# EAGLE library part PCI_CON (library quickdev_v2)
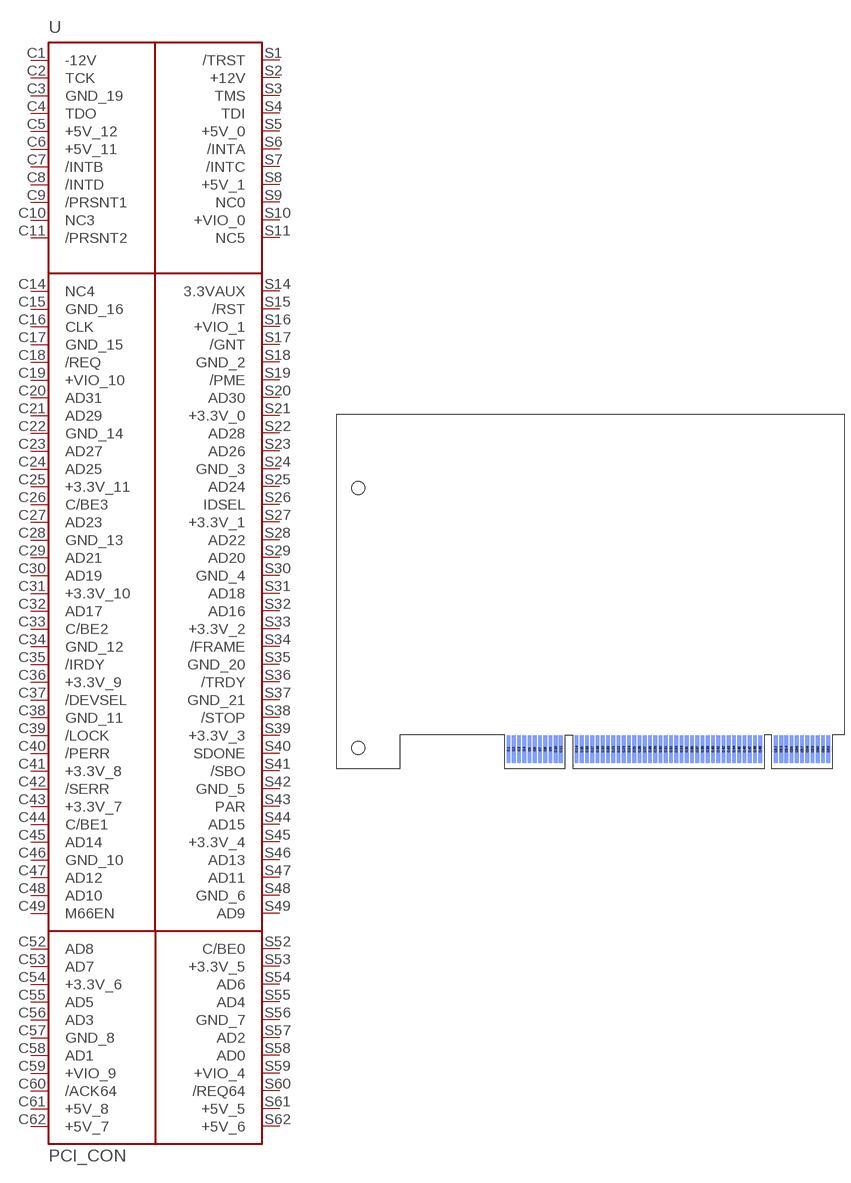
[diagram p4: symbol with the pads of PCI_BRDL; footprint PCI_BRDL]

Designator prefix -

## PCI_CON  [PCI_BRDL]
C1  -12V  pwr
C2  TCK  pas
C3  GND_19  pwr
C4  TDO  pas
C5  +5V_12  pwr
C6  +5V_11  pwr
C7  /INTB  pas
C8  /INTD  pas
C9  /PRSNT1  pas
C10  NC3  pas
C11  /PRSNT2  pas
C14  NC4  pas
C15  GND_16  pwr
C16  CLK  pas
C17  GND_15  pwr
C18  /REQ  pas
C19  +VIO_10  pwr
C20  AD31  pas
C21  AD29  pas
C22  GND_14  pwr
C23  AD27  pas
C24  AD25  pas
C25  +3.3V_11  pwr
C26  C/BE3  pas
C27  AD23  pas
C28  GND_13  pwr
C29  AD21  pas
C30  AD19  pas
C31  +3.3V_10  pwr
C32  AD17  pas
C33  C/BE2  pas
C34  GND_12  pwr
C35  /IRDY  pas
C36  +3.3V_9  pwr
C37  /DEVSEL  pas
C38  GND_11  pwr
C39  /LOCK  pas
C40  /PERR  pas
C41  +3.3V_8  pwr
C42  /SERR  pas
C43  +3.3V_7  pwr
C44  C/BE1  pas
C45  AD14  pas
C46  GND_10  pwr
C47  AD12  pas
C48  AD10  pas
C49  M66EN  pwr
C52  AD8  pas
C53  AD7  pas
C54  +3.3V_6  pwr
C55  AD5  pas
C56  AD3  pas
C57  GND_8  pwr
C58  AD1  pas
C59  +VIO_9  pwr
C60  /ACK64  pas
C61  +5V_8  pwr
C62  +5V_7  pwr
S1  /TRST  pas
S2  +12V  pwr
S3  TMS  pas
S4  TDI  pas
S5  +5V_0  pwr
S6  /INTA  pas
S7  /INTC  pas
S8  +5V_1  pwr
S9  NC0  pas
S10  +VIO_0  pwr
S11  NC5  pas
S14  3.3VAUX  pas
S15  /RST  pas
S16  +VIO_1  pwr
S17  /GNT  pas
S18  GND_2  pwr
S19  /PME  pas
S20  AD30  pas
S21  +3.3V_0  pwr
S22  AD28  pas
S23  AD26  pas
S24  GND_3  pwr
S25  AD24  pas
S26  IDSEL  pas
S27  +3.3V_1  pwr
S28  AD22  pas
S29  AD20  pas
S30  GND_4  pwr
S31  AD18  pas
S32  AD16  pas
S33  +3.3V_2  pwr
S34  /FRAME  pas
S35  GND_20  pwr
S36  /TRDY  pas
S37  GND_21  pas
S38  /STOP  pas
S39  +3.3V_3  pas
S40  SDONE  pas
S41  /SBO  pas
S42  GND_5  pwr
S43  PAR  pas
S44  AD15  pas
S45  +3.3V_4  pwr
S46  AD13  pas
S47  AD11  pas
S48  GND_6  pwr
S49  AD9  pas
S52  C/BE0  pas
S53  +3.3V_5  pwr
S54  AD6  pas
S55  AD4  pas
S56  GND_7  pwr
S57  AD2  pas
S58  AD0  pas
S59  +VIO_4  pwr
S60  /REQ64  pas
S61  +5V_5  pwr
S62  +5V_6  pwr

## Footprint PCI_BRDL (pad centres in mm)
PCI BOARD LONG
smd 0.91 x 6.7: C1 41.593,4.763; C2 42.862,4.763; C3 44.133,4.763; C4 45.403,4.763; C5 46.672,4.763; C6 47.943,4.763; C7 49.212,4.763; C8 50.483,4.763; C9 51.752,4.763; C10 53.023,4.763; C11 54.292,4.763; C14 58.102,4.763; C15 59.373,4.763; C16 60.642,4.763; C17 61.913,4.763; C18 63.182,4.763; C19 64.453,4.763; C20 65.722,4.763; C21 66.993,4.763; C22 68.263,4.763; C23 69.532,4.763; C24 70.802,4.763; C25 72.073,4.763; C26 73.343,4.763; C27 74.612,4.763; C28 75.882,4.763; C29 77.153,4.763; C30 78.422,4.763; C31 79.692,4.763; C32 80.963,4.763; C33 82.233,4.763; C34 83.502,4.763; C35 84.772,4.763; C36 86.043,4.763; C37 87.312,4.763; C38 88.582,4.763; C39 89.853,4.763; C40 91.123,4.763; C41 92.392,4.763; C42 93.662,4.763; C43 94.933,4.763; C44 96.203,4.763; C45 97.472,4.763; C46 98.743,4.763; C47 100.013,4.763; C48 101.282,4.763; C49 102.552,4.763; C52 106.362,4.763; C53 107.632,4.763; C54 108.903,4.763; C55 110.172,4.763; C56 111.442,4.763; C57 112.713,4.763; C58 113.983,4.763; C59 115.252,4.763; C60 116.522,4.763; C61 117.793,4.763; C62 119.062,4.763
smd 0.91 x 6.7 bottom: S1 41.593,4.763; S2 42.862,4.763; S3 44.133,4.763; S4 45.403,4.763; S5 46.672,4.763; S6 47.943,4.763; S7 49.212,4.763; S8 50.483,4.763; S9 51.752,4.763; S10 53.023,4.763; S11 54.292,4.763; S14 58.102,4.763; S15 59.373,4.763; S16 60.642,4.763; S17 61.913,4.763; S18 63.182,4.763; S19 64.453,4.763; S20 65.722,4.763; S21 66.993,4.763; S22 68.263,4.763; S23 69.532,4.763; S24 70.802,4.763; S25 72.073,4.763; S26 73.343,4.763; S27 74.612,4.763; S28 75.882,4.763; S29 77.153,4.763; S30 78.422,4.763; S31 79.692,4.763; S32 80.963,4.763; S33 82.233,4.763; S34 83.502,4.763; S35 84.772,4.763; S36 86.043,4.763; S37 87.312,4.763; S38 88.582,4.763; S39 89.853,4.763; S40 91.123,4.763; S41 92.392,4.763; S42 93.662,4.763; S43 94.933,4.763; S44 96.203,4.763; S45 97.472,4.763; S46 98.743,4.763; S47 100.013,4.763; S48 101.282,4.763; S49 102.552,4.763; S52 106.362,4.763; S53 107.632,4.763; S54 108.903,4.763; S55 110.172,4.763; S56 111.442,4.763; S57 112.713,4.763; S58 113.983,4.763; S59 115.252,4.763; S60 116.522,4.763; S61 117.793,4.763; S62 119.062,4.763
hole 3.2 at 5.24,5.05
hole 3.2 at 5.24,68.05